# Altium schematic symbol library PCM4104.SchLib: 1 symbol
Pins are listed as number, name and electrical type; pins without a type are passive.

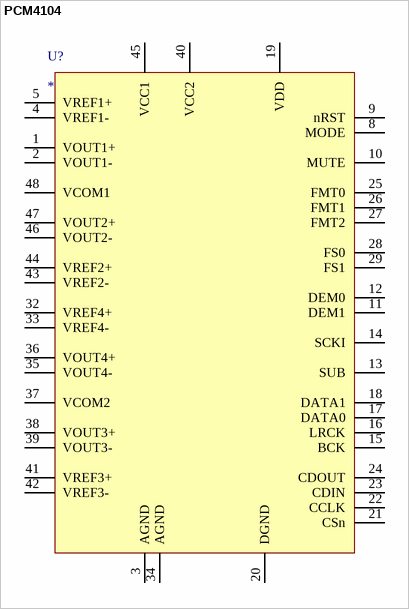
[diagram p0: symbol PCM4104]

## PCM4104
designator U?
pins: 1 VOUT1+, 2 VOUT1-, 3 AGND, 4 VREF1-, 5 VREF1+, 8 MODE, 9 nRST, 10 MUTE, 11 DEM1, 12 DEM0, 13 SUB, 14 SCKI, 15 BCK, 16 LRCK, 17 DATA0, 18 DATA1, 19 VDD, 20 DGND, 21 CSn, 22 CCLK, 23 CDIN, 24 CDOUT, 25 FMT0, 26 FMT1, 27 FMT2, 28 FS0, 29 FS1, 32 VREF4+, 33 VREF4-, 34 AGND, 35 VOUT4-, 36 VOUT4+, 37 VCOM2, 38 VOUT3+, 39 VOUT3-, 40 VCC2, 41 VREF3+, 42 VREF3-, 43 VREF2-, 44 VREF2+, 45 VCC1, 46 VOUT2-, 47 VOUT2+, 48 VCOM1